# EAGLE library part LS7184N-S (library servocontroller)
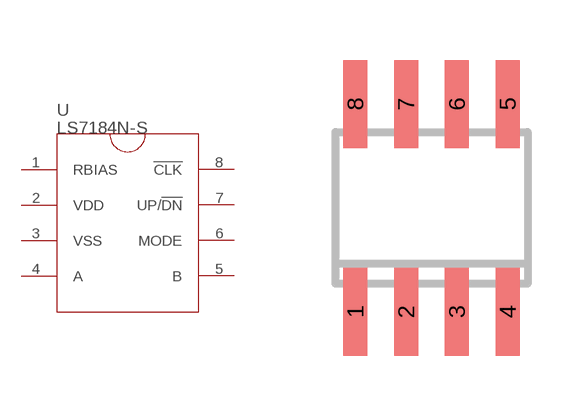
[diagram p0: symbol with the pads of SOIC8; footprint SOIC8]

Designator prefix U

## LS7184N-S  [SOIC8]
1  RBIAS
2  VDD
3  VSS
4  A
5  B
6  MODE
7  UP/!DN
8  !CLK

## Footprint SOIC8 (pad centres in mm)
Small Outline IC
smd 0.6 x 2.2: 1 -1.905,-2.6; 2 -0.635,-2.6; 3 0.635,-2.6; 4 1.905,-2.6; 5 1.905,2.6; 6 0.635,2.6; 7 -0.635,2.6; 8 -1.905,2.6